# Altium footprint library CAPAE1700X1700D1700L550X120N.PcbLib: 1 footprints
Each footprint in its own frame and in the unit in brackets; x right, y up, seen from the top. Pads: shape width x height; smd on the part's side, far side on the other; paste and mask are expansions set on the pad; w line width, h text height; cw(c..) or ccw(c..) is an arc to the next point about the centre after c.
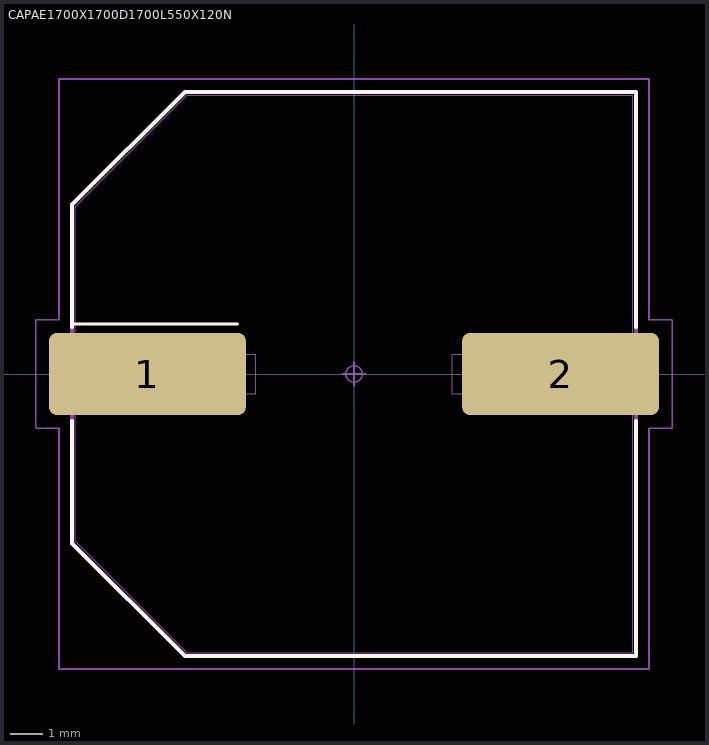
[diagram p0: the footprint, top view; thin cyan lines are the x and y axes]

## CAPAE1700X1700D1700L550X120N [mm] "Capacitor, Aluminum Electrolytic; 17.00 mm L X 17.00 mm W X 17.00 mm H body"
height 17
pads (2):
  rrect20% 6.01x2.51 smd: 1(-6.3,0) 2(6.3,0)
Top Overlay:
  lines w0.1: -8.6,1.524 -3.556,1.524
  lines w0.12: -8.6,-1.44 -8.6,-5.17 -5.16,-8.605 8.6,-8.605 8.6,-1.44 ; -8.6,1.44 -8.6,5.17 -5.16,8.605 8.6,8.605 8.6,1.44
Mechanical 3:
  lines w0.12: -8.6,-5.16 -8.6,5.16 -5.16,8.6 8.6,8.6 8.6,-8.6 -5.16,-8.6 -8.6,-5.16
Mechanical 5:
  lines w0.025: -8.5,-5.1 -8.5,5.1 -5.1,8.5 8.5,8.5 8.5,-8.5 -5.1,-8.5 -8.5,-5.1 ; -8.5,-0.6 -8.5,0.6 -3,0.6 -3,-0.6 -8.5,-0.6 ; 3,-0.6 8.5,-0.6 8.5,0.6 3,0.6 3,-0.6
Mechanical 7:
  circle w0.05: c0,0 r0.25
  lines w0.05: -0.35,0 0.35,0 ; 0,-0.35 0,0.35 ; -9.705,-1.655 -9,-1.655 -9,-9 9,-9 9,-1.655 9.705,-1.655 9.705,1.655 9,1.655 9,9 -9,9 -9,1.655 -9.705,1.655 -9.705,-1.655
Mechanical 9:
  text "'.Designator'" at -5.334,-0.127 h1
3D body "CAPAE1700X1700D1700L550X120.STEP": height 17, standoff 0, extent -8.85,-8.5 8.85,8.5
3D body: height 1.04, standoff 0, extent -9.705,-9 9.705,9